# Altium integrated library Conn Jack.IntLib: 2 symbols
Pins are listed as number, name and electrical type; pins without a type are passive.

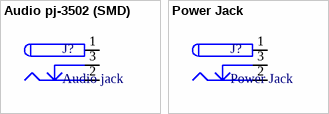
[diagram p0: symbols Audio pj-3502 (SMD) to Power Jack]

## Audio pj-3502 (SMD)
designator J?, comment Audio jack
Power Jack; PartNumber: PJ-3502
footprint PJ-3502
pins: 1 (power), 2 (power), 3 (power)

## Power Jack
designator J?
PartNumber: DC005-5.5MM
footprint DC005 (Power Adaptor Jack)
pins: 1 (power), 2 (power), 3 (power)